# Altium footprint library Connector.PcbLib: 116 footprints (part 3 of 8)
Each footprint in its own frame and in the unit in brackets; x right, y up, seen from the top. Pads: shape width x height; smd on the part's side, far side on the other; paste and mask are expansions set on the pad; w line width, h text height; cw(c..) or ccw(c..) is an arc to the next point about the centre after c.
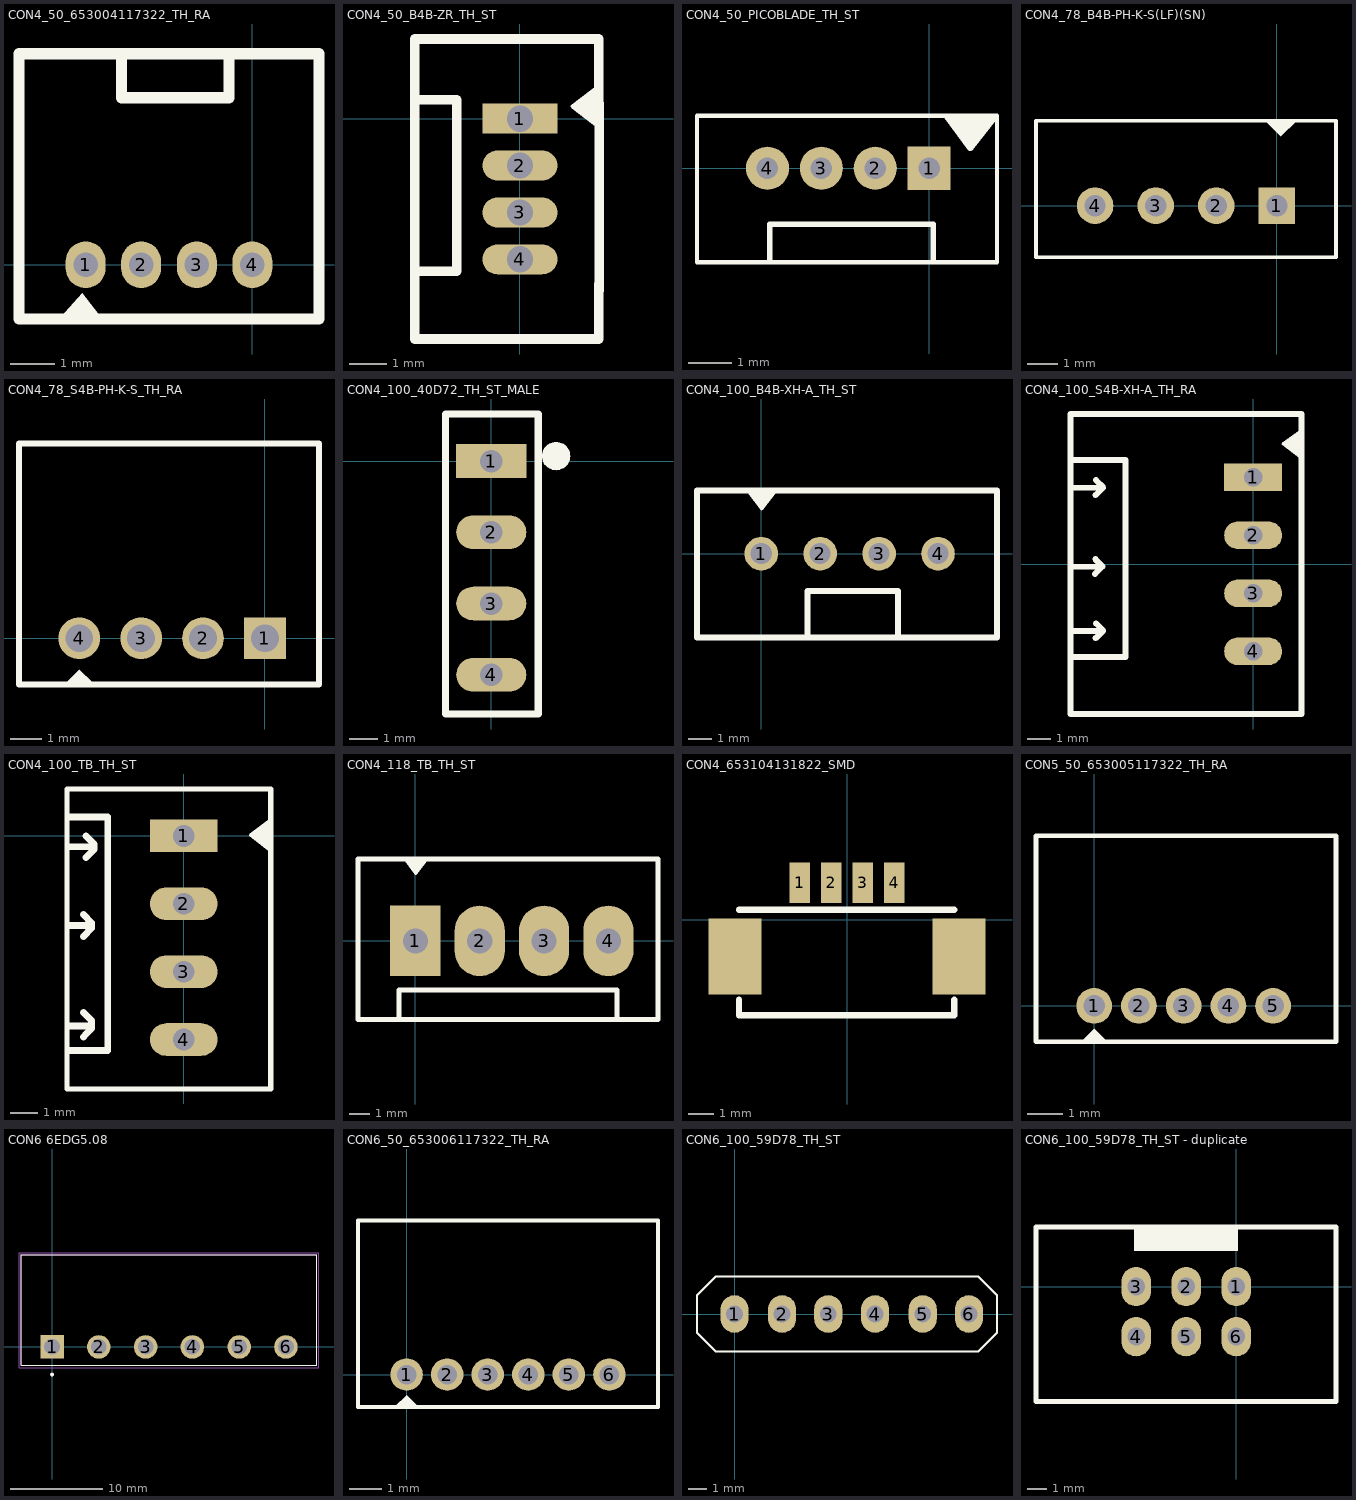
[diagram p2: the footprints below, top view; thin cyan lines are the x and y axes]

## CON4_50_653004117322_TH_RA [mm] "wurth connector"
height 3.5
pads (4):
  oval 0.9x1.05 hole 0.55: 1(-3.75,0) 2(-2.5,0) 3(-1.25,0) 4(0,0)
Top Overlay:
  region: -3.286,-1.342 -4.151,-1.342 -4.308,-1.185 -3.826,-0.639
  lines w0.254: -2.942,3.759 -2.942,4.73 ; -2.916,3.759 -0.524,3.759 -0.524,4.73 ; -5.25,-1.219 -5.25,4.75 1.5,4.75 1.5,-1.219 -5.25,-1.219
3D body "653004117322 (rev1).stp": height 3.65, standoff -2.14, extent -5.275,-0.45 1.475,4.25
3D body "653004113322 (rev1).stp": height 3.38, standoff 0.18, extent -5.275,1.025 1.475,4.975

## CON4_50_B4B-ZR_TH_ST [mm] "Connector Header"
height 4.5
pads (4):
  rect 2x0.8 hole 0.7: 1(0,0)
  oval 2x0.8 hole 0.7: 2(0,-1.25) 3(0,-2.5) 4(0,-3.75)
Top Overlay:
  region: 2.128,0.831 2.128,-0.135 1.924,-0.135 1.467,0.323
  lines w0.127: 2.153,0.881 1.416,0.329 2.165,-0.254
  lines w0.254: -2.8,0.5 -1.682,0.5 -1.682,-4.072 -2.749,-4.072 ; 2.1,-4.4 2.1,-5.875 -2.8,-5.875 -2.8,1.3 -2.8,2.125 2.1,2.125 2.1,0.225 ; 2.113,-4.592 2.113,0.408
3D body "B4B-ZR.STEP": height 4.51, standoff -2.69, extent -2.184,-5.604 1.316,1.896

## CON4_50_PICOBLADE_TH_ST [mm]
pads (4):
  rect 1x1 / inner round 1 / far side rect 1x1 hole 0.5: 1(0,0)
  round 1 hole 0.5: 2(-1.25,0) 3(-2.5,0) 4(-3.75,0)
Top Overlay:
  region: 0.418,1.219 1.473,1.219 1.473,1.016 0.965,0.508
  lines w0.1: -5.385,-2.184 1.575,-2.184 1.575,1.219 -5.385,1.219 -5.385,-2.184
  lines w0.127: -3.7,-2.134 -3.7,-1.3 0.1,-1.3 0.1,-2.159 ; 0.406,1.194 0.959,0.457 1.542,1.206
3D body "53047-0410.stp": height 4.1, standoff -2.3, extent -5.28,-2.082 1.47,1.118

## CON4_78_B4B-PH-K-S(LF)(SN) [mm] "JST TH"
height 10
pads (4):
  rect 1.208x1.208 hole 0.7: 1(0,0)
  round 1.208 hole 0.7: 2(-2,0) 3(-4,0) 4(-6,0)
Top Overlay:
  region: -0.369,2.79 0.131,2.29 0.631,2.79
  lines w0.127: -7.95,-1.7 1.95,-1.7 1.95,2.8 -7.95,2.8 -7.95,-1.7
3D body "B4B-PH-K-S(LF)(SN)--3DModel-STEP-56544.STEP": height 6, standoff -3.4, extent -7.95,-1.7 1.95,2.8

## CON4_78_S4B-PH-K-S_TH_RA [mm] "Connector Header"
height 4.8
pads (4):
  rect 1.35x1.35 hole 0.9: 1(0,0)
  round 1.35 hole 0.9: 2(-2,0) 3(-4,0) 4(-6,0)
Top Overlay:
  region: -6.477,-1.5 -6.477,-1.493 -6,-1.016 -5.588,-1.428 -5.588,-1.5
  lines w0.2: -7.95,-1.5 -7.95,6.3 1.75,6.3 1.75,-1.5 -7.95,-1.5
3D body "S4B-PH-K-S.STEP": height 4.81, standoff -3.39, extent -8.05,-1.3 1.85,6.3
3D body "PHR-4.STEP": height 5.07, standoff 0.58, extent -7.95,1.475 1.85,8.325

## CON4_100_40D72_TH_ST_MALE [mm] "Berg Strip"
height 11.5
pads (5):
  rect 2.5x1.2 hole 0.8: 1(0,0)
  oval 2.5x1.2 hole 0.8: 2(0,-2.54) 3(0,-5.08) 4(0,-7.62)
  round 1.016 on Top Overlay: ""(2.311,0.178)
Top Overlay:
  lines w0.254: -1.626,-9.017 -1.626,1.676 1.676,1.676 1.676,0.914 1.676,-9.017 -1.626,-9.017
3D body "65781.stp": height 8.55, standoff -2.99, extent -1.143,-8.763 1.397,1.397

## CON4_100_B4B-XH-A_TH_ST [mm] "Connector Header"
height 7
pads (4):
  round 1.45 hole 0.91: 1(0,0) 2(2.54,0) 3(5.08,0) 4(7.62,0)
Top Overlay:
  region: -0.483,2.642 0.483,2.642 0.483,2.438 0.025,1.981
  lines w0.127: -0.533,2.667 0.019,1.93 0.602,2.679
  lines w0.254: 2,-3.531 2,-1.6 ; 5.9,-3.505 5.9,-1.6 2,-1.6 ; 2,-1.6 2,-1.6 ; -2.769,-3.607 10.16,-3.607 10.16,2.718 -2.769,2.718 -2.769,-3.607
3D body "B4B-XH-A.STEP": height 7.25, standoff -3.15, extent -2.4,-3.275 10,2.475
3D body "XHP-4.STEP": height 8.32, standoff 0.57, extent -2.35,-3.225 9.95,2.475

## CON4_100_S4B-XH-A_TH_RA [mm] "Connector Header"
height 6.1
pads (4):
  rect 2.5x1.2 hole 0.8: 1(0,3.75)
  oval 2.5x1.2 hole 0.8: 2(0,1.25) 3(0,-1.25) 4(0,-3.75)
Top Overlay:
  region: 2.007,5.69 2.007,4.724 1.803,4.724 1.346,5.182
  lines w0.127: 2.032,5.74 1.295,5.188 2.044,4.605
  lines w0.254: -7.825,-0.104 -6.504,-0.104 ; -7.8,-2.872 -6.479,-2.872 ; -7.8,3.3 -6.479,3.3 ; -7.8,4.5 -5.5,4.5 -5.5,-4 -5.512,-3.988 -7.772,-3.988 ; -6.815,-0.414 -6.49,-0.089 -6.8,0.222 ; -6.789,-3.183 -6.464,-2.857 -6.775,-2.547 ; -6.789,2.989 -6.464,3.315 -6.775,3.625 ; -7.874,-6.452 2.085,-6.452 2.085,6.477 -7.874,6.477 -7.874,-6.452
3D body "User Library-JST-XH-2_5mm-4.step": height 5.91, standoff -3.39, extent -7.2,-6.25 0.44,6.25
3D body "XHP-4.STEP": height 5.7, standoff 0, extent -9.645,-5.986 -1.895,6.314

## CON4_100_TB_TH_ST [mm]
pads (4):
  rect 2.5x1.2 hole 0.8: 1(0,0)
  oval 2.5x1.2 hole 0.8: 2(0,-2.5) 3(0,-5) 4(0,-7.5)
Top Overlay:
  region: 3.175,0.533 3.175,-0.432 2.972,-0.432 2.515,0.025
  lines w0.127: 3.2,0.584 2.463,0.031 3.212,-0.551
  lines w0.2: -4.3,-9.322 -4.3,1.727 3.2,1.727 3.2,-9.322 -4.3,-9.322
  lines w0.254: -4.2,-7.9 -2.8,-7.9 -2.8,0.7 -4.2,0.7 ; -4.2,-7 -3.5,-7 ; -4.2,-3.3 -3.5,-3.3 ; -4.2,-0.4 -3.4,-0.4 ; -3.7,-7.4 -3.6,-7.3 -3.4,-7.1 -3.4,-6.8 -3.7,-6.5 ; -3.7,-3.7 -3.4,-3.4 -3.4,-3.3 -3.4,-3.2 -3.7,-2.9 ; -3.6,-0.8 -3.3,-0.5 ; -3.6,0 -3.3,-0.3 -3.3,-0.5 ; -3.7,-2.9 -3.7,-2.9 ; -3.3,-0.5 -3.3,-0.5
3D body "65876.stp": height 12.86, standoff 0.01, extent -2.6,-9.14 3,1.54

## CON4_118_TB_TH_ST [mm]
pads (4):
  rect 2.5x3.5 hole 1.25: 1(0,0)
  oval 2.5x3.5 hole 1.25: 2(3.2,0) 3(6.4,0) 4(9.6,0)
Top Overlay:
  region: -0.483,4.064 0.483,4.064 0.483,3.861 0.025,3.404
  lines w0.127: -0.533,4.089 0.019,3.352 0.602,4.101
  lines w0.254: -0.813,-3.81 -0.813,-2.438 10.025,-2.438 10.025,-3.861 ; -2.852,-3.912 -2.852,0.815 -2.852,4.064 -1.864,4.064 12.065,4.064 12.065,-3.912 -1.888,-3.912 -2.852,-3.912
3D body "4way 3mm.stp": height 8.62, standoff -3.53, extent -2.575,-3.6 11.825,3.8

## CON4_653104131822_SMD [mm] "CONNECTOR"
height 1.25
pads (6):
  rect 0.81x1.6 smd: 1(-1.875,1.45) 2(-0.625,1.45) 3(0.625,1.45) 4(1.875,1.45)
  rect 2.1x3 smd: ""(-4.425,-1.45) ""(4.425,-1.45)
Top Overlay:
  lines w0.254: -4.267,-3.175 -4.267,-3.785 4.233,-3.785 4.233,-3.175 ; -4.267,0.381 4.233,0.381
3D body: height 1.25, standoff 0.2, extent -4.267,-3.785 4.233,0.381

## CON5_50_653005117322_TH_RA [mm] "Connector Header"
height 3.5
pads (5):
  round 1 hole 0.6: 1(0,0) 2(1.25,0) 3(2.5,0) 4(3.75,0) 5(5,0)
Top Overlay:
  region: -0.381,-1 -0.365,-1 0,-0.635 0.381,-1.016
  lines w0.127: -1.626,-1 -1.626,4.75 6.756,4.75 6.756,-1 -1.626,-1
3D body "653005113322 (rev1).stp": height 3.38, standoff 0.18, extent -1.5,0.971 6.5,4.921
3D body "653005117322 (rev1).stp": height 3.51, standoff -2.29, extent -1.434,-0.47 6.566,4.23

## CON6 6EDG5.08 [mm]
pads (6):
  rect 2.55x2.55 / inner round 2.55 / far side rect 2.55x2.55 hole 1.7: 1(0,0)
  round 2.55 hole 1.7: 2(5.08,0) 3(10.16,0) 4(15.24,0) 5(20.32,0) 6(25.4,0)
Top Overlay:
  circle w0.2: c0,-3 r0.1
  lines w0.127: -3.34,-2 28.74,-2 28.74,10 -3.34,10 -3.34,-2
Mechanical 13:
  circle w0.2: c0,-3 r0.1
  lines w0.127: -3.34,-2 28.74,-2 28.74,10 -3.34,10 -3.34,-2
Mechanical 15:
  lines w0.05: -3.59,-2.25 -3.59,10.25 28.99,10.25 28.99,-2.25 -3.59,-2.25
3D body "step_temp.STEP": height 8.5, standoff -4, extent -3.34,-2.032 28.74,9.968

## CON6_50_653006117322_TH_RA [mm] "wurth connector"
height 3.5
pads (6):
  round 1 hole 0.6: 1(0,0) 2(1.25,0) 3(2.5,0) 4(3.75,0) 5(5,0) 6(6.25,0)
Top Overlay:
  region: -0.381,-1 -0.365,-1 0,-0.635 0.381,-1.016
  lines w0.127: -1.5,-1 7.75,-1 7.75,4.75 -1.5,4.75 -1.5,-1
3D body "653006117322 (rev1).stp": height 3.65, standoff -2.14, extent -1.525,-0.35 7.725,4.35
3D body "653006113322 (rev1).stp": height 3.38, standoff 0.18, extent -1.425,1.225 7.825,5.175

## CON6_100_59D78_TH_ST [mm] "Bergstrip"
height 10
pads (6):
  oval 1.5x2 hole 0.9: 1(0,0) 2(2.54,0) 3(5,0) 4(7.5,0) 5(10.04,0) 6(12.5,0)
Top Overlay:
  lines w0.127: -2,-1 -2,1 ; -2,-1 -1,-2 ; -2,-1 -1,-2 ; -2,-1 -2,1 ; -2,1 -1,2 ; -2,1 -1,2 ; -1,-2 11,-2 ; -1,-2 11,-2 ; -1,2 13,2 ; 11,-2 13,-2 14,-1 14,1 13,2 ; 13,2 13,2
3D body "65787.stp": height 8.55, standoff -2.99, extent -1.346,-1.245 13.894,1.295

## CON6_100_59D78_TH_ST - duplicate [mm] "6 PIN IDC Straight"
height 8.9
pads (6):
  oval 1.5x2 hole 0.9: 1(0,0) 2(-2.54,0) 3(-5.08,0) 4(-5.08,-2.54) 5(-2.54,-2.54) 6(0,-2.54)
Top Overlay:
  rectangle: -5.178,1.796 0.098,3.05
  lines w0.254: -10.161,-5.838 5.059,-5.838 5.059,3.012 -10.161,3.012 -10.161,-5.838
3D body "User Library-IDC Socket Male 6pin Straight THT Goldplated 2_54mm.STEP": height 9.17, standoff -3.23, extent -10.161,-5.838 5.059,3.012